# EAGLE library part FABO-CHIRIMEN (library FaBo-Template)
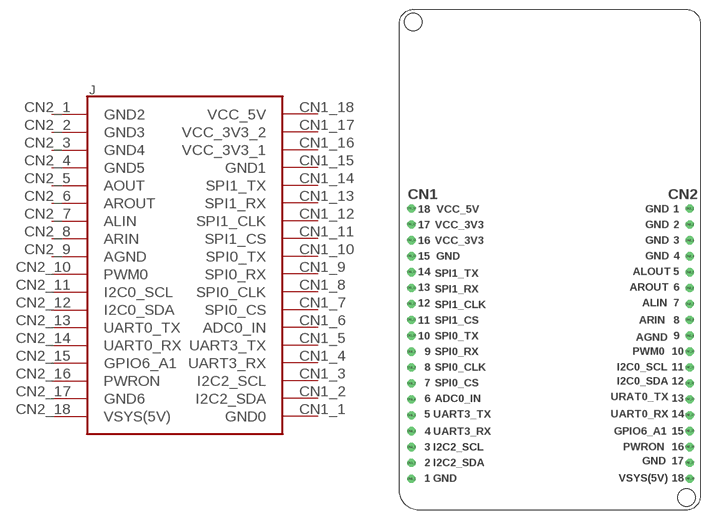
[diagram p2: symbol with the pads of FABO-CHIRIMEN; footprint FABO-CHIRIMEN]

Designator prefix J

## FABO-CHIRIMEN  [FABO-CHIRIMEN]
CN1_1  GND0
CN1_2  I2C2_SDA
CN1_3  I2C2_SCL
CN1_4  UART3_RX
CN1_5  UART3_TX
CN1_6  ADC0_IN
CN1_7  SPI0_CS
CN1_8  SPI0_CLK
CN1_9  SPI0_RX
CN1_10  SPI0_TX
CN1_11  SPI1_CS
CN1_12  SPI1_CLK
CN1_13  SPI1_RX
CN1_14  SPI1_TX
CN1_15  GND1
CN1_16  VCC_3V3_1
CN1_17  VCC_3V3_2
CN1_18  VCC_5V
CN2_1  GND2
CN2_2  GND3
CN2_3  GND4
CN2_4  GND5
CN2_5  AOUT
CN2_6  AROUT
CN2_7  ALIN
CN2_8  ARIN
CN2_9  AGND
CN2_10  PWM0
CN2_11  I2C0_SCL
CN2_12  I2C0_SDA
CN2_13  UART0_TX
CN2_14  UART0_RX
CN2_15  GPIO6_A1
CN2_16  PWRON
CN2_17  GND6
CN2_18  VSYS(5V)

## Footprint FABO-CHIRIMEN (pad centres in mm)
drill 0.8 octagon: CN1_1 -22.1,-35; CN1_2 -22.1,-32.46; CN1_3 -22.1,-29.92; CN1_4 -22.1,-27.38; CN1_5 -22.1,-24.84; CN1_6 -22.1,-22.3; CN1_7 -22.1,-19.76; CN1_8 -22.1,-17.22; CN1_9 -22.1,-14.68; CN1_10 -22.1,-12.14; CN1_11 -22.1,-9.6; CN1_12 -22.1,-7.06; CN1_13 -22.1,-4.52; CN1_14 -22.1,-1.98; CN1_15 -22.1,0.56; CN1_16 -22.1,3.1; CN1_17 -22.1,5.64; CN1_18 -22.1,8.18; CN2_1 22.35,8.18; CN2_2 22.35,5.64; CN2_3 22.35,3.1; CN2_4 22.35,0.56; CN2_5 22.35,-1.98; CN2_6 22.35,-4.52; CN2_7 22.35,-7.06; CN2_8 22.35,-9.6; CN2_9 22.35,-12.14; CN2_10 22.35,-14.68; CN2_11 22.35,-17.22; CN2_12 22.35,-19.76; CN2_13 22.35,-22.3; CN2_14 22.35,-24.84; CN2_15 22.35,-27.38; CN2_16 22.35,-29.92; CN2_17 22.35,-32.46; CN2_18 22.35,-35
hole 2.8 at -21.8,38
hole 2.8 at 21.8,-38